# Altium footprint library PCB_Module.PcbLib: 4 footprints
Each footprint in its own frame and in the unit in brackets; x right, y up, seen from the top. Pads: shape width x height; smd on the part's side, far side on the other; paste and mask are expansions set on the pad; w line width, h text height; cw(c..) or ccw(c..) is an arc to the next point about the centre after c.
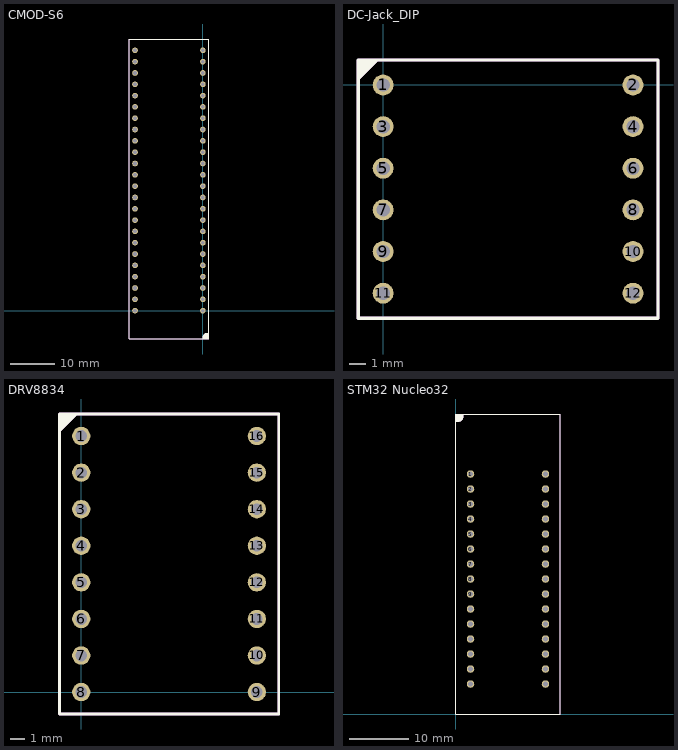
[diagram p0: the footprints below, top view; thin cyan lines are the x and y axes]

## CMOD-S6 [mil]
pads (48):
  round 50 hole 32: 1(0,0) 2(0,100) 3(0,200) 4(0,300) 5(0,400) 6(0,500) 7(0,600) 8(0,700) 9(0,800) 10(0,900) 11(0,1000) 12(0,1100) 13(0,1200) 14(0,1300) 15(0,1400) 16(0,1500) 17(0,1600) 18(0,1700) 19(0,1800) 20(0,1900) 21(0,2000) 22(0,2100) 23(0,2200) 24(0,2300) 25(-600,2300) 26(-600,2200) 27(-600,2100) 28(-600,2000) 29(-600,1900) 30(-600,1800) 31(-600,1700) 32(-600,1600) 33(-600,1500) 34(-600,1400) 35(-600,1300) 36(-600,1200) 37(-600,1100) 38(-600,1000) 39(-600,900) 40(-600,800) 41(-600,700) 42(-600,600) 43(-600,500) 44(-600,400) 45(-600,300) 46(-600,200) 47(-600,100) 48(-600,0)
Top Overlay:
  region: 0,-250.6 50.61,-250.6 50.61,-200 30,-200 27.05,-200 21.25,-201.15 15.79,-203.42 10.88,-206.7 6.7,-210.88 3.42,-215.79 1.15,-221.25 0,-227.05 0,-230
  lines w8: -650,2398 -650,-250 50,-250 50,2400 -650,2400
Mechanical 14:
  region: 0,-250.6 50.61,-250.6 50.61,-200 30,-200 27.05,-200 21.25,-201.15 15.79,-203.42 10.88,-206.7 6.7,-210.88 3.42,-215.79 1.15,-221.25 0,-227.05 0,-230
  lines w7.87: -650,-250 -650,2400 50,2400 50,-250 -650,-250
  text ".Designator" at -400,1000 h50

## DC-Jack_DIP [mil]
pads (12):
  round 50 hole 32: 1(0,0) 2(600,0) 3(0,-100) 4(600,-100) 5(0,-200) 6(600,-200) 7(0,-300) 8(600,-300) 9(0,-400) 10(600,-400) 11(0,-500) 12(600,-500)
Top Overlay:
  region: -9.7,60.3 -60.3,60.3 -60.3,9.7
  lines w7.87: -60,-560 660,-560 660,60 -60,60 -60,-560
Mechanical 14:
  region: -9.7,60.3 -60.3,60.3 -60.3,9.7
  lines w7.87: -60,-560 660,-560 660,60 -60,60 -60,-560
  text ".Designator" at 205,-275 h50

## DRV8834 [mil] "DRV8834 Pololu Module"
pads (16):
  round 50 hole 32: 1(0,700) 2(0,600) 3(0,500) 4(0,400) 5(0,300) 6(0,200) 7(0,100) 8(0,0) 9(480,0) 10(480,100) 11(480,200) 12(480,300) 13(480,400) 14(480,500) 15(480,600) 16(480,700)
Top Overlay:
  region: -9.7,760.3 -60.3,760.3 -60.3,709.7
  lines w7.87: -60,-60 540,-60 540,760 -60,760 -60,-60
Mechanical 14:
  region: -9.7,760.3 -60.3,760.3 -60.3,709.7
  lines w7.87: -60,-60 540,-60 540,760 -60,760 -60,-60
  text ".Designator" at 220,335 h50

## STM32 Nucleo32 [mil]
pads (30):
  round 50 hole 32: 1(100,1600) 2(100,1500) 3(100,1400) 4(100,1300) 5(100,1200) 6(100,1100) 7(100,1000) 8(100,900) 9(100,800) 10(100,700) 11(100,600) 12(100,500) 13(100,400) 14(100,300) 15(100,200) 16(600,200) 17(600,300) 18(600,400) 19(600,500) 20(600,600) 21(600,700) 22(600,800) 23(600,900) 24(600,1000) 25(600,1100) 26(600,1200) 27(600,1300) 28(600,1400) 29(600,1500) 30(600,1600)
Top Overlay:
  region: 50.6,2000 0,2000 0,1949.39 20.61,1949.4 23.56,1949.4 29.36,1950.55 34.82,1952.81 39.73,1956.09 43.91,1960.27 47.19,1965.19 49.45,1970.65 50.61,1976.44 50.61,1979.4
  lines w7.87: 0,0 700,0 700,2000 0,2000 0,0
Mechanical 14:
  region: 50.6,2000 0,2000 0,1949.39 20.61,1949.4 23.56,1949.4 29.36,1950.55 34.82,1952.81 39.73,1956.09 43.91,1960.27 47.19,1965.19 49.45,1970.65 50.61,1976.44 50.61,1979.4
  lines w7.87: 0,0 700,0 700,2000 0,2000 0,0
  text ".Designator" at 295,995 h50